# EAGLE library part VPP12-200 (library SquantorTransformer)
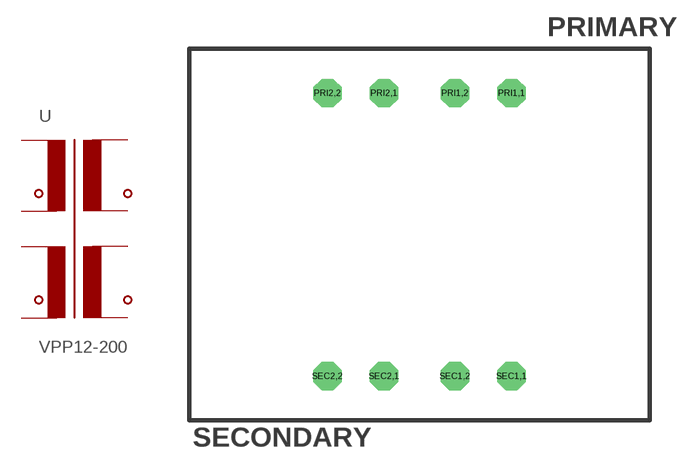
[diagram p0: symbol with the pads of TRIADMAG1,5/8:1,5/16; footprint TRIADMAG1,5/8:1,5/16]

Designator prefix -

## VPP12-200  [TRIADMAG1,5/8:1,5/16]
PRI1,1  PRI1,1  pwr
PRI1,2  PRI1,2  pwr
PRI2,1  PRI2,1  pwr
PRI2,2  PRI2,2  pwr
SEC1,1  SEC1,1  pwr
SEC1,2  SEC1,2  pwr
SEC2,1  SEC2,1  pwr
SEC2,2  SEC2,2  pwr

## Footprint TRIADMAG1,5/8:1,5/16 (pad centres in mm)
drill 1.1 pad 2.54 octagon: PRI1,1 8.255,12.7; PRI1,2 3.175,12.7; PRI2,1 -3.175,12.7; PRI2,2 -8.255,12.7; SEC1,1 8.255,-12.7; SEC1,2 3.175,-12.7; SEC2,1 -3.175,-12.7; SEC2,2 -8.255,-12.7